# EAGLE library part DIL42 (library 2010.09.20)
Dual In Line
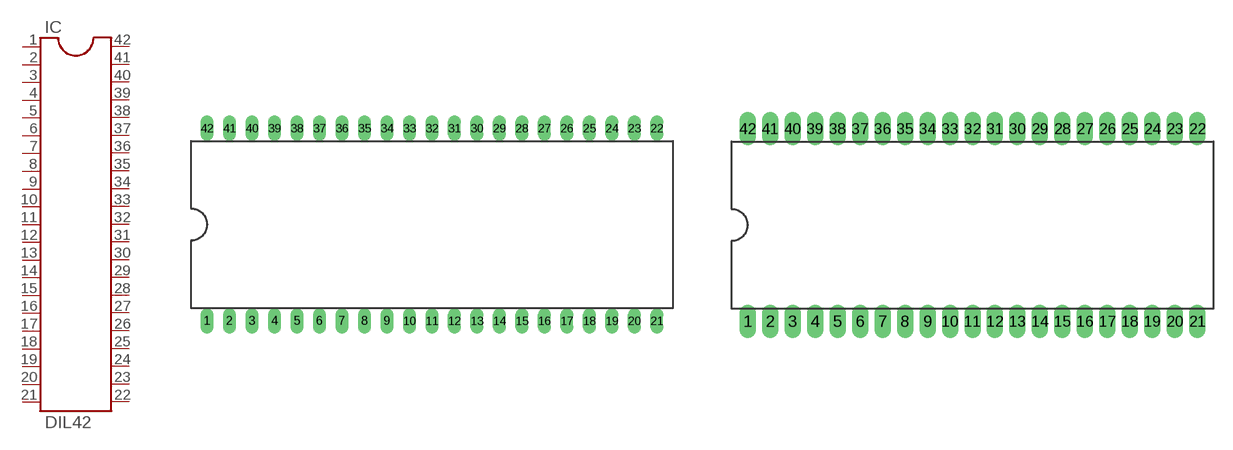
[diagram p1: symbol with the pads of DIL42-6.07.SMDRILL; footprints DIL42-6.07.SMDRILL, DIL42-6.07]

Designator prefix IC

## DIL42-6.07SM  [DIL42-6.07.SMDRILL]
1  1  pas
2  2  pas
3  3  pas
4  4  pas
5  5  pas
6  6  pas
7  7  pas
8  8  pas
9  9  pas
10  10  pas
11  11  pas
12  12  pas
13  13  pas
14  14  pas
15  15  pas
16  16  pas
17  17  pas
18  18  pas
19  19  pas
20  20  pas
21  21  pas
22  22  pas
23  23  pas
24  24  pas
25  25  pas
26  26  pas
27  27  pas
28  28  pas
29  29  pas
30  30  pas
31  31  pas
32  32  pas
33  33  pas
34  34  pas
35  35  pas
36  36  pas
37  37  pas
38  38  pas
39  39  pas
40  40  pas
41  41  pas
42  42  pas

## DIL42-6.07  [DIL42-6.07]
Pads as for DIL42-6.07.SMDRILL

## DIL42  [DIL42]
Pads as for DIL42-6.07.SMDRILL

## Footprint DIL42-6.07.SMDRILL (pad centres in mm)
Dual In Line Package 0.6 inch 0.07 pitch Drawn by D Lue Choy µ 2010.09.20
drill 0.5 long: 1 -17.78,-7.62; 2 -16.002,-7.62; 3 -14.224,-7.62; 4 -12.446,-7.62; 5 -10.668,-7.62; 6 -8.89,-7.62; 7 -7.112,-7.62; 8 -5.334,-7.62; 9 -3.556,-7.62; 10 -1.778,-7.62; 11 0,-7.62; 12 1.778,-7.62; 13 3.556,-7.62; 14 5.334,-7.62; 15 7.112,-7.62; 16 8.89,-7.62; 17 10.668,-7.62; 18 12.446,-7.62; 19 14.224,-7.62; 20 16.002,-7.62; 21 17.78,-7.62; 22 17.78,7.62; 23 16.002,7.62; 24 14.224,7.62; 25 12.446,7.62; 26 10.668,7.62; 27 8.89,7.62; 28 7.112,7.62; 29 5.334,7.62; 30 3.556,7.62; 31 1.778,7.62; 32 0,7.62; 33 -1.778,7.62; 34 -3.556,7.62; 35 -5.334,7.62; 36 -7.112,7.62; 37 -8.89,7.62; 38 -10.668,7.62; 39 -12.446,7.62; 40 -14.224,7.62; 41 -16.002,7.62; 42 -17.78,7.62

## Footprint DIL42-6.07 (pad centres in mm)
Dual In Line Package 0.6 inch 0.07 pitch Drawn by D Lue Choy µ 2010.09.20
drill 0.813 long: 1 -17.78,-7.62; 2 -16.002,-7.62; 3 -14.224,-7.62; 4 -12.446,-7.62; 5 -10.668,-7.62; 6 -8.89,-7.62; 7 -7.112,-7.62; 8 -5.334,-7.62; 9 -3.556,-7.62; 10 -1.778,-7.62; 11 0,-7.62; 12 1.778,-7.62; 13 3.556,-7.62; 14 5.334,-7.62; 15 7.112,-7.62; 16 8.89,-7.62; 17 10.668,-7.62; 18 12.446,-7.62; 19 14.224,-7.62; 20 16.002,-7.62; 21 17.78,-7.62; 22 17.78,7.62; 23 16.002,7.62; 24 14.224,7.62; 25 12.446,7.62; 26 10.668,7.62; 27 8.89,7.62; 28 7.112,7.62; 29 5.334,7.62; 30 3.556,7.62; 31 1.778,7.62; 32 0,7.62; 33 -1.778,7.62; 34 -3.556,7.62; 35 -5.334,7.62; 36 -7.112,7.62; 37 -8.89,7.62; 38 -10.668,7.62; 39 -12.446,7.62; 40 -14.224,7.62; 41 -16.002,7.62; 42 -17.78,7.62

## Footprint DIL42 (pad centres in mm)
Dual In Line Package
drill 0.813 long: 1 -25.4,-7.62; 2 -22.86,-7.62; 3 -20.32,-7.62; 4 -17.78,-7.62; 5 -15.24,-7.62; 6 -12.7,-7.62; 7 -10.16,-7.62; 8 -7.62,-7.62; 9 -5.08,-7.62; 10 -2.54,-7.62; 11 0,-7.62; 12 2.54,-7.62; 13 5.08,-7.62; 14 7.62,-7.62; 15 10.16,-7.62; 16 12.7,-7.62; 17 15.24,-7.62; 18 17.78,-7.62; 19 20.32,-7.62; 20 22.86,-7.62; 21 25.4,-7.62; 22 25.4,7.62; 23 22.86,7.62; 24 20.32,7.62; 25 17.78,7.62; 26 15.24,7.62; 27 12.7,7.62; 28 10.16,7.62; 29 7.62,7.62; 30 5.08,7.62; 31 2.54,7.62; 32 0,7.62; 33 -2.54,7.62; 34 -5.08,7.62; 35 -7.62,7.62; 36 -10.16,7.62; 37 -12.7,7.62; 38 -15.24,7.62; 39 -17.78,7.62; 40 -20.32,7.62; 41 -22.86,7.62; 42 -25.4,7.62